# EAGLE library part TXB0106 (library MOTO_LIB)
6-BIT BIDIRECTIONAL VOLTAGE-LEVEL TRANSLATOR FOR PUSH-PULL APPLICATIONS
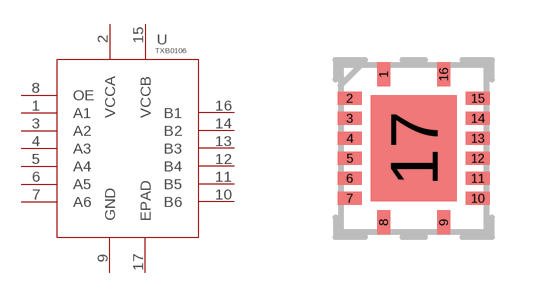
[diagram p7: symbol with the pads of RGY16_2P55X2P05; footprint RGY16_2P55X2P05]

Designator prefix U

## TXB0106 (MPN: TXB0106RGYR; SUPPLIER: TEXAS INSTRUMENTS)  [RGY16_2P55X2P05]
1  A1
2  VCCA  pwr
3  A2
4  A3
5  A4
6  A5
7  A6
8  OE  in
9  GND  pwr
10  B6
11  B5
12  B4
13  B3
14  B2
15  VCCB  pwr
16  B1
17  EPAD  pas

## Footprint RGY16_2P55X2P05 (pad centres in mm)
smd 0.33 x 0.6: 1 -0.75,1.85; 8 -0.75,-1.85; 9 0.75,-1.85; 16 0.75,1.85
smd 0.6 x 0.33: 2 -1.6,1.25; 3 -1.6,0.75; 4 -1.6,0.25; 5 -1.6,-0.25; 6 -1.6,-0.75; 7 -1.6,-1.25; 10 1.6,-1.25; 11 1.6,-0.75; 12 1.6,-0.25; 13 1.6,0.25; 14 1.6,0.75; 15 1.6,1.25
smd 2.15 x 2.65: 17 0,0